# Altium integrated library LM2596S-12.IntLib: 1 symbol
Pins are listed as number, name and electrical type; pins without a type are passive.

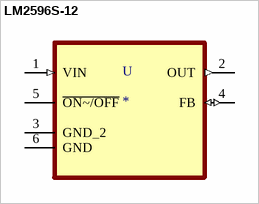
[diagram p0: symbol LM2596S-12]

## LM2596S-12
designator U
Buck Switching Regulator IC Positive Fixed 12V 1 Output 3A TO-263-6, DÂ²Pak _5 Leads + Tab_, TO-263BA; MF: Texas Instruments; MP: LM2596S-12; Value: *; SnapEDA_Link: https://www.snapeda.com/parts/LM2596S-12/Texas%20Instruments/view-part/558935/?ref=snap; Price: None; Availability: Unavailable; Package: TO-263-5 Texas Instruments
footprint TO170P1435X465-6N
pins: 1 VIN (in), 2 OUT (out), 3 GND_2, 4 FB (io), 5 ~{ON~/OFF}, 6 GND